# Altium footprint library FUSSC324X455X85L32N.PcbLib: 1 footprints
Each footprint in its own frame and in the unit in brackets; x right, y up, seen from the top. Pads: shape width x height; smd on the part's side, far side on the other; paste and mask are expansions set on the pad; w line width, h text height; cw(c..) or ccw(c..) is an arc to the next point about the centre after c.
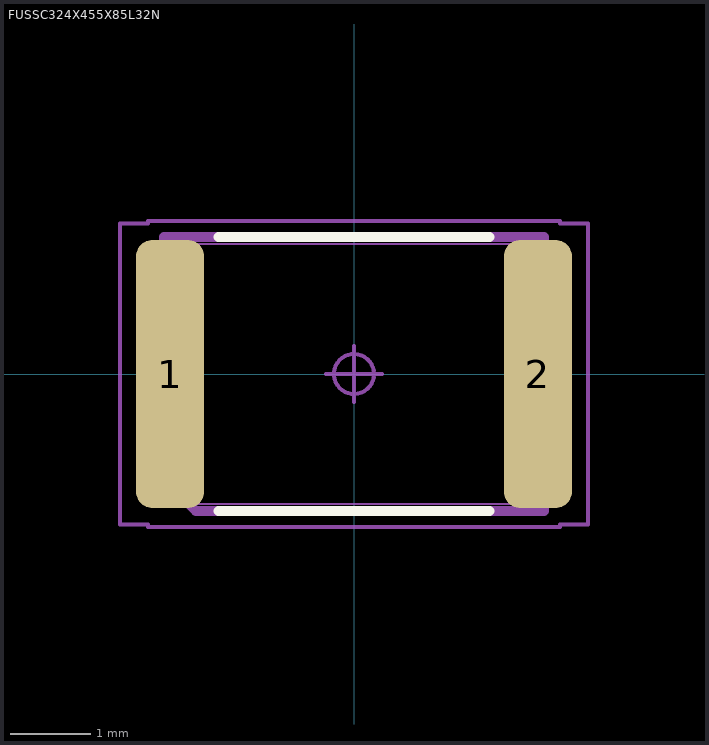
[diagram p0: the footprint, top view; thin cyan lines are the x and y axes]

## FUSSC324X455X85L32N [mm] "Fuse, Side Lead; 2 pin, 3.24 mm L X 4.55 mm W X 0.85 mm H body"
height 0.85
pads (2):
  rrect49% 0.85x3.35 smd: 1(-2.295,0) 2(2.295,0)
Top Overlay:
  lines w0.12: -1.69,-1.71 1.69,-1.71 ; -1.69,1.71 1.69,1.71
Mechanical 3:
  lines w0.12: -2.37,-1.313 -2.37,1.71 2.37,1.71 2.37,-1.71 -1.973,-1.71 -2.37,-1.313
Mechanical 5:
  lines w0.025: -2.275,-1.62 2.275,-1.62 ; -2.275,-1.62 -2.275,1.62 ; -2.275,-1.62 -2.275,1.62 ; -2.275,-1.62 -1.95,-1.62 -1.95,1.62 -2.275,1.62 ; -2.275,1.62 2.275,1.62 ; 2.275,-1.62 2.275,1.62 ; 2.275,-1.62 1.95,-1.62 1.95,1.62 2.275,1.62 ; 2.275,-1.62 2.275,1.62
Mechanical 7:
  circle w0.05: c0,0 r0.25
  lines w0.05: -0.35,0 0.35,0 ; 0,-0.35 0,0.35 ; -2.92,-1.875 -2.57,-1.875 -2.57,-1.91 2.57,-1.91 2.57,-1.875 2.92,-1.875 2.92,1.875 2.57,1.875 2.57,1.91 -2.57,1.91 -2.57,1.875 -2.92,1.875 -2.92,-1.875
Mechanical 9:
  text "'.Designator'" at -5.715,-0.254 h1
3D body "FUSSC324X455X85L32.STEP": height 0.85, standoff 0, extent -2.275,-1.62 2.275,1.62
3D body: height 22.61, standoff 0, extent -2.92,-1.91 2.92,1.91